# Altium footprint library TMDX654GPEVM_BRD.PcbLib: 153 footprints (part 3 of 12)
Each footprint in its own frame and in the unit in brackets; x right, y up, seen from the top. Pads: shape width x height; smd on the part's side, far side on the other; paste and mask are expansions set on the pad; w line width, h text height; cw(c..) or ccw(c..) is an arc to the next point about the centre after c.
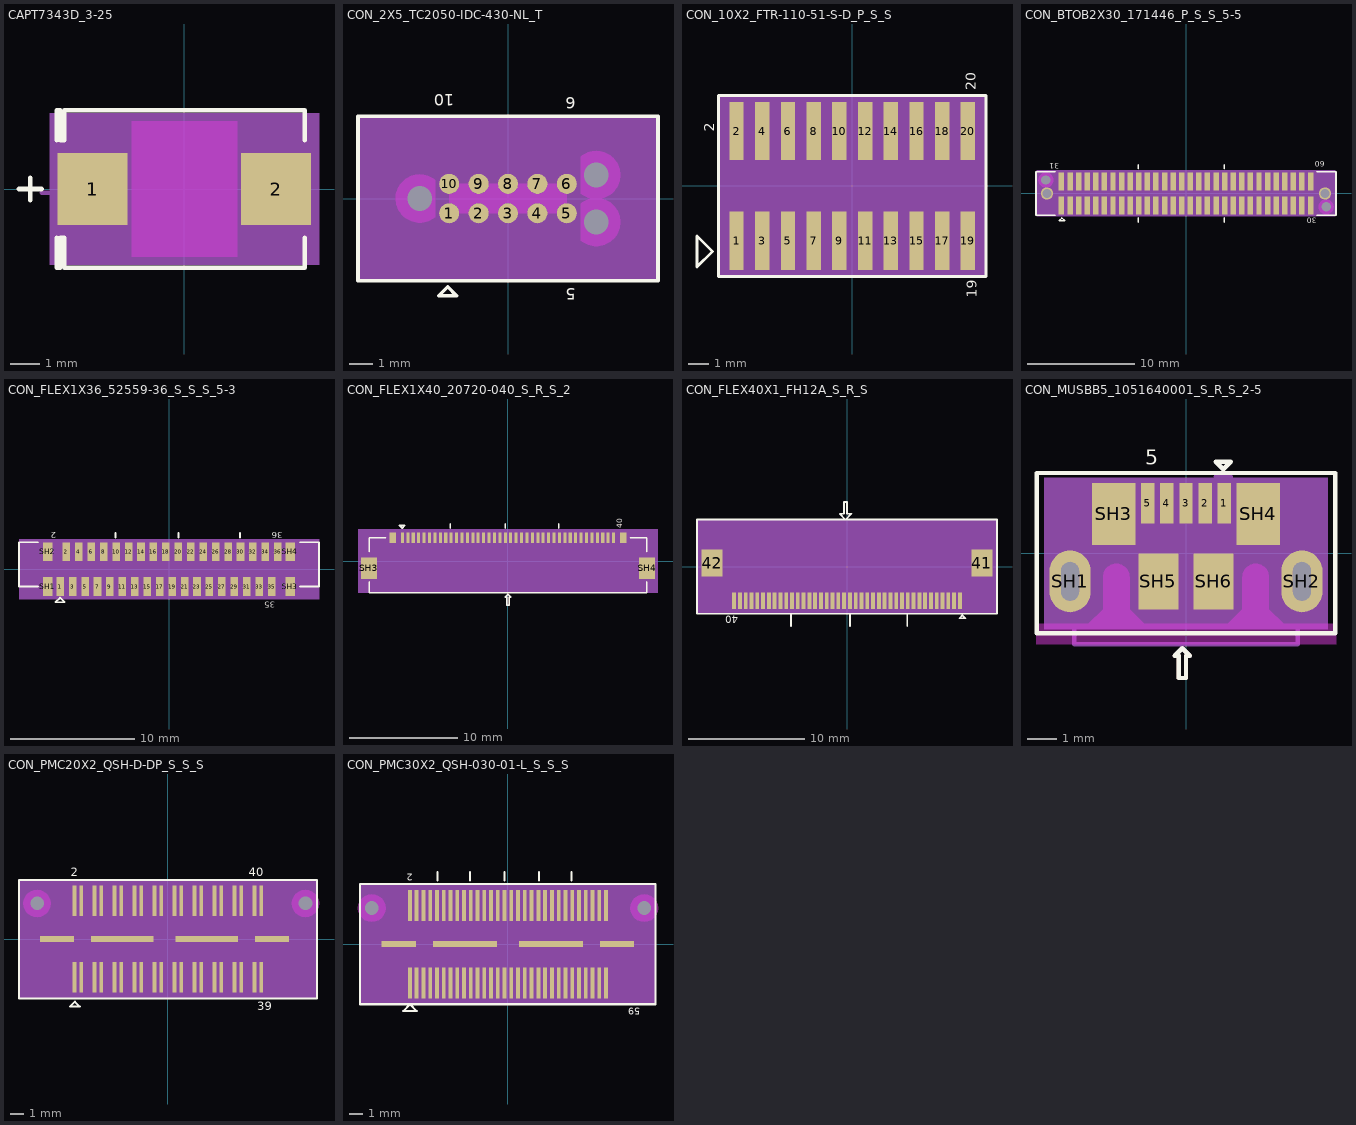
[diagram p2: the footprints below, top view; thin cyan lines are the x and y axes]

## CAPT7343D_3-25 [mil] "CAPT7343D_3-25"
pads (2):
  rect 93x96 smd: 1(-122.05,0) 2(122.05,0)
Top Layer keep-out:
  region: -70,90 -70,-90 70,-90 70,90
Top Overlay:
  lines w6: -220,0 -190,0 ; -205,-15 -205,15 ; -170,-65 -170,-105 -165,-105 -165,-65 -160,-65 -160,-105 160,-105 160,-65 ; -170,65 -170,105 -165,105 -165,65 -160,65 -160,105 160,105 160,65
Top Courtyard:
  dashed: -175.55,-97 -175.55,97 175.55,97 175.55,-97
Top 3D Body:
  region: -179,-100.5 -179,100.5 179,100.5 179,-100.5
Mechanical 15:
  lines w6: -190,-5 -160,-5 ; -175,-20 -175,10 ; -145,90 -150,90 -150,-90 150,-90 150,90 -145,90 ; -145,90 -145,-90 -140,-90 -140,90 -145,90
  text "C299" at 30.45,-41 h30
Mechanical 16:
  lines w6: -190,-5 -160,-5 ; -175,-20 -175,10 ; -145,90 -150,90 -150,-90 150,-90 150,90 -145,90 ; -145,90 -145,-90 -140,-90 -140,90 -145,90
  text "C299" at 30.45,-41 h30
Mechanical 17:
  lines w6: -190,-5 -160,-5 ; -175,-20 -175,10 ; -145,90 -150,90 -150,-90 150,-90 150,90 -145,90 ; -145,90 -145,-90 -140,-90 -140,90 -145,90
  text "C299" at 30.45,-41 h30
Mechanical 18:
  lines w6: -190,-5 -160,-5 ; -175,-20 -175,10 ; -145,90 -150,90 -150,-90 150,-90 150,90 -145,90 ; -145,90 -145,-90 -140,-90 -140,90 -145,90
  text "C299" at 30.45,-41 h30
Mechanical 19:
  lines w6: -190,-5 -160,-5 ; -175,-20 -175,10 ; -145,90 -150,90 -150,-90 150,-90 150,90 -145,90 ; -145,90 -145,-90 -140,-90 -140,90 -145,90
  text "C299" at 30.45,-41 h30
Mechanical47:
  text "1" at -122.05,4 h10
  text "2" at 122.05,4 h10
Top Assembly:
  lines w6: -190,-5 -160,-5 ; -175,-20 -175,10 ; -145,90 150,90 150,-90 -150,-90 -150,90 -145,90 ; -145,90 -145,-90 -140,-90 -140,90 -145,90
  text ".Designator" at 30.45,-41 h30
3D body: height 150, standoff 0, extent -179,-100.5 179,100.5

## CON_2X5_TC2050-IDC-430-NL_T [mil] "CON_2X5_TC2050-IDC-430-NL_T"
pads (13):
  round 34 smd: 1(-100,-25) 2(-50,-25) 3(0,-25) 4(50,-25) 5(100,-25) 6(100,25) 7(50,25) 8(0,25) 9(-50,25) 10(-100,25)
  round 37 hole 42 unplated: ""(-150,0) ""(150,-39.96) ""(150,39.96)
Top Layer keep-out:
  region: 314 vertices and 0 holes, not listed, extent -100,-25 100,25
Top Overlay:
  lines w6: -255,-140 -255,140 255,140 255,-140 -255,-140 ; -117.5,-165 -87.5,-165 -102.5,-150 -117.5,-165
  text "5" at 115,-152.5 h20
  text "6" at 115,172.5 h20
  text "10" at -91.5,177.5 h20
  text ".Designator" at 26.5,187.5 h30
Top Courtyard:
  dashed: -252,137 -252,-137 252,-137 252,137
Top 3D Body:
  region: -255,140 -255,-140 255,-140 255,140
Multi-Layer keep-out:
  drawing of 3 lines, arcs and shapes, not listed
Mechanical47:
  text "7" at 46,18.33 h10
  text "1" at -104,-25 h10
  text "3" at -4,-25 h10
  text "9" at -54,18.33 h10
  text "5" at 96,-25 h10
  text "4" at 46,-25 h10
  text "2" at -54,-25 h10
  text "8" at -4,18.33 h10
  text "6" at 96,18.33 h10
  text "10" at -108,18.33 h10
Top Assembly:
  lines w6: -245,-9.29 ccw(c-195,-9.29) -230.36,-44.64 -145,-130 245,-130 245,130 -145,130 -230.36,44.64 ccw(c-195,9.29) -245,9.29 -245,-9.29 ; -200,-9.29 ccw(c-150,-9.29) -185.36,-44.64 -150,-80 200,-80 200,80 -150,80 -185.36,44.64 ccw(c-150,9.29) -200,9.29 -200,-9.29 ; -115,-80 -85,-80 -100,-65 -115,-80
3D body: height 150, standoff 0, extent -255,-140 255,140

## CON_10X2_FTR-110-51-S-D_P_S_S [mil] "CON_10X2_FTR-110-51-S-D_P_S_S"
pads (20):
  rect 28x113 smd: 1(-225,-106.5) 2(-225,106.5) 3(-175,-106.5) 4(-175,106.5) 5(-125,-106.5) 6(-125,106.5) 7(-75,-106.5) 8(-75,106.5) 9(-25,-106.5) 10(-25,106.5) 11(25,-106.5) 12(25,106.5) 13(75,-106.5) 14(75,106.5) 15(125,-106.5) 16(125,106.5) 17(175,-106.5) 18(175,106.5) 19(225,-106.5) 20(225,106.5)
Top Overlay:
  lines w6: -301.88,-157.43 -271.88,-127.43 -301.88,-97.43 -301.88,-157.43 ; -260,-176 -260,176 260,176 260,-176 -260,-176
  text ".Designator" at 307,-49 h30
  text "2" at -268.05,105.65 h20
  text "20" at 240.14,185.99 h20
  text "19" at 241.8,-217.92 h20
Top Courtyard:
  dashed: -257,-170 -257,170 257,170 257,-170
Top 3D Body:
  region: -260,-176 260,-176 260,176 -260,176
Mechanical 10:
  lines w6: -250,-100 -250,100 250,100 250,-100 -210,-100 -225,-80 -240,-100 -250,-100
  text "J13" at 15,-39 h30
Mechanical 11:
  lines w6: -250,-100 -250,100 250,100 250,-100 -210,-100 -225,-80 -240,-100 -250,-100
  text "J13" at 15,-39 h30
Mechanical 12:
  lines w6: -250,-100 -250,100 250,100 250,-100 -210,-100 -225,-80 -240,-100 -250,-100
  text "J13" at 15,-39 h30
Mechanical 13:
  lines w6: -250,-100 -250,100 250,100 250,-100 -210,-100 -225,-80 -240,-100 -250,-100
  text "J13" at 15,-39 h30
Mechanical 14:
  lines w6: -250,-100 -250,100 250,100 250,-100 -210,-100 -225,-80 -240,-100 -250,-100
  text "J13" at 15,-39 h30
Mechanical47:
  text "17" at 175,-114.5 h10
  text "18" at 175,98.5 h10
  text "19" at 225,-114.5 h10
  text "6" at -125,102.5 h10
  text "4" at -175,102.5 h10
  text "13" at 75,-114.5 h10
  text "3" at -175,-110.5 h10
  text "8" at -75,102.5 h10
  text "7" at -75,-110.5 h10
  text "14" at 75,98.5 h10
  text "2" at -225,102.5 h10
  text "1" at -225,-110.5 h10
  text "12" at 25,98.5 h10
  text "10" at -25,98.5 h10
  text "20" at 225,98.5 h10
  text "16" at 125,98.5 h10
  text "15" at 125,-114.5 h10
  text "9" at -25,-110.5 h10
  text "11" at 25,-114.5 h10
  text "5" at -125,-110.5 h10
Top Assembly:
  lines w6: -250,-100 -250,100 250,100 250,-100 -210,-100 -225,-80 -240,-100 -250,-100
3D body: height 150, standoff 0, extent -260,-176 260,176

## CON_BTOB2X30_171446_P_S_S_5-5 [mil] "CON_BTOB2X30_171446_P_S_S_5-5"
pads (64):
  rect 20x67 smd: 1(-456.69,-43.9) 2(-425.2,-43.9) 3(-393.7,-43.9) 4(-362.2,-43.9) 5(-330.71,-43.9) 6(-299.21,-43.9) 7(-267.72,-43.9) 8(-236.22,-43.9) 9(-204.72,-43.9) 10(-173.23,-43.9) 11(-141.73,-43.9) 12(-110.24,-43.9) 13(-78.74,-43.9) 14(-47.24,-43.9) 15(-15.75,-43.9) 16(15.75,-43.9) 17(47.24,-43.9) 18(78.74,-43.9) 19(110.24,-43.9) 20(141.73,-43.9) 21(173.23,-43.9) 22(204.72,-43.9) 23(236.22,-43.9) 24(267.72,-43.9) 25(299.21,-43.9) 26(330.71,-43.9) 27(362.2,-43.9) 28(393.7,-43.9) 29(425.2,-43.9) 30(456.69,-43.9) 31(-456.69,43.9) 32(-425.2,43.9) 33(-393.7,43.9) 34(-362.2,43.9) 35(-330.71,43.9) 36(-299.21,43.9) 37(-267.72,43.9) 38(-236.22,43.9) 39(-204.72,43.9) 40(-173.23,43.9) 41(-141.73,43.9) 42(-110.24,43.9) 43(-78.74,43.9) 44(-47.24,43.9) 45(-15.75,43.9) 46(15.75,43.9) 47(47.24,43.9) 48(78.74,43.9) 49(110.24,43.9) 50(141.73,43.9) 51(173.23,43.9) 52(204.72,43.9) 53(236.22,43.9) 54(267.72,43.9) 55(299.21,43.9) 56(330.71,43.9) 57(362.2,43.9) 58(393.7,43.9) 59(425.2,43.9) 60(456.69,43.9)
  round 45 hole 32: SH1(-509.84,0) SH2(509.84,0)
  round 29 hole 34 unplated: ""(-513.78,49.21) ""(513.78,-49.21)
Top Overlay:
  lines w6: -480,-80 -550,-80 -550,80 -480,80 ; -175,-105 -175,-90 ; -175,90 -175,105 ; 140,-105 140,-90 ; 140,90 140,105 ; 480,-80 550,-80 550,80 480,80 ; -465,-100 -445,-100 -455,-90 -465,-100
  text "31" at -465.5,111.01 h20
  text "30" at 479.5,-88.99 h20
  text "60" at 509.5,117.68 h20
  text ".Designator" at -44.5,-158.99 h30
Top Courtyard:
  dashed: -547,-84.4 -547,84.4 547,84.4 547,-84.4
Top 3D Body:
  region: -540,-70 540,-70 540,70 -540,70
Mechanical 10:
  lines w6: -540,-35 -535,-35 -535,-50 ccw(c-515,-50) -515,-70 -475,-70 -475,-55 475,-55 475,-70 515,-70 ccw(c515,-50) 535,-50 535,-35 540,-35 540,-25 515,-25 515,25 540,25 540,35 535,35 535,50 ccw(c515,50) 515,70 475,70 475,55 -475,55 -475,70 -515,70 ccw(c-515,50) -535,50 -535,35 -540,35 -540,25 -515,25 -515,-25 -540,-25 -540,-35 ; -465,-70 -445,-70 -455,-60 -465,-70
  text "J5" at 50.5,16.01 h30
Mechanical 11:
  lines w6: -540,-35 -535,-35 -535,-50 ccw(c-515,-50) -515,-70 -475,-70 -475,-55 475,-55 475,-70 515,-70 ccw(c515,-50) 535,-50 535,-35 540,-35 540,-25 515,-25 515,25 540,25 540,35 535,35 535,50 ccw(c515,50) 515,70 475,70 475,55 -475,55 -475,70 -515,70 ccw(c-515,50) -535,50 -535,35 -540,35 -540,25 -515,25 -515,-25 -540,-25 -540,-35 ; -465,-70 -445,-70 -455,-60 -465,-70
  text "J5" at 50.5,16.01 h30
Mechanical 12:
  lines w6: -540,-35 -535,-35 -535,-50 ccw(c-515,-50) -515,-70 -475,-70 -475,-55 475,-55 475,-70 515,-70 ccw(c515,-50) 535,-50 535,-35 540,-35 540,-25 515,-25 515,25 540,25 540,35 535,35 535,50 ccw(c515,50) 515,70 475,70 475,55 -475,55 -475,70 -515,70 ccw(c-515,50) -535,50 -535,35 -540,35 -540,25 -515,25 -515,-25 -540,-25 -540,-35 ; -465,-70 -445,-70 -455,-60 -465,-70
  text "J5" at 50.5,16.01 h30
Mechanical 13:
  lines w6: -540,-35 -535,-35 -535,-50 ccw(c-515,-50) -515,-70 -475,-70 -475,-55 475,-55 475,-70 515,-70 ccw(c515,-50) 535,-50 535,-35 540,-35 540,-25 515,-25 515,25 540,25 540,35 535,35 535,50 ccw(c515,50) 515,70 475,70 475,55 -475,55 -475,70 -515,70 ccw(c-515,50) -535,50 -535,35 -540,35 -540,25 -515,25 -515,-25 -540,-25 -540,-35 ; -465,-70 -445,-70 -455,-60 -465,-70
  text "J5" at 50.5,16.01 h30
Mechanical 14:
  lines w6: -540,-35 -535,-35 -535,-50 ccw(c-515,-50) -515,-70 -475,-70 -475,-55 475,-55 475,-70 515,-70 ccw(c515,-50) 535,-50 535,-35 540,-35 540,-25 515,-25 515,25 540,25 540,35 535,35 535,50 ccw(c515,50) 515,70 475,70 475,55 -475,55 -475,70 -515,70 ccw(c-515,50) -535,50 -535,35 -540,35 -540,25 -515,25 -515,-25 -540,-25 -540,-35 ; -465,-70 -445,-70 -455,-60 -465,-70
  text "J5" at 50.5,16.01 h30
Multi-Layer keep-out:
  region: -541.49,49.21 -540.54,42.04 -537.78,35.36 -533.37,29.62 -527.63,25.21 -520.95,22.45 -513.78,21.5 -506.61,22.45 -499.92,25.21 -494.18,29.62 -489.78,35.36 -487.01,42.04 -486.07,49.21 -487.01,56.38 -489.78,63.07 -494.18,68.81 -499.92,73.21 -506.61,75.98 -513.78,76.92 -520.95,75.98 -527.63,73.21 -533.37,68.81 -537.78,63.07 -540.54,56.38
  region: 486.32,-49.21 487.26,-56.32 490,-62.94 494.36,-68.63 500.05,-72.99 506.67,-75.74 513.78,-76.67 520.89,-75.74 527.51,-72.99 533.19,-68.63 537.56,-62.94 540.3,-56.32 541.24,-49.21 540.3,-42.11 537.56,-35.48 533.19,-29.8 527.51,-25.43 520.89,-22.69 513.78,-21.75 506.67,-22.69 500.05,-25.43 494.36,-29.8 490,-35.48 487.26,-42.11
Mechanical47:
  text "31" at -448.69,43.9 h10
  text "2" at -421.2,-43.9 h10
  text "56" at 338.71,43.9 h10
  text "15" at -7.75,-43.9 h10
  text "33" at -385.7,43.9 h10
  text "55" at 307.21,43.9 h10
  text "34" at -354.2,43.9 h10
  text "49" at 118.24,43.9 h10
  text "50" at 149.73,43.9 h10
  text "39" at -196.72,43.9 h10
  text "40" at -165.23,43.9 h10
  text "42" at -102.24,43.9 h10
  text "43" at -70.74,43.9 h10
  text "7" at -263.72,-43.9 h10
  text "8" at -232.22,-43.9 h10
  text "9" at -200.72,-43.9 h10
  text "1" at -452.69,-43.9 h10
  text "4" at -358.2,-43.9 h10
  text "10" at -165.23,-43.9 h10
  text "13" at -70.74,-43.9 h10
  text "17" at 55.24,-43.9 h10
  text "20" at 149.73,-43.9 h10
  text "23" at 244.22,-43.9 h10
  text "26" at 338.71,-43.9 h10
  text "29" at 433.2,-43.9 h10
  text "32" at -417.2,43.9 h10
  text "35" at -322.71,43.9 h10
  text "38" at -228.22,43.9 h10
  text "41" at -133.73,43.9 h10
  text "44" at -39.24,43.9 h10
  text "48" at 86.74,43.9 h10
  text "51" at 181.23,43.9 h10
  text "54" at 275.72,43.9 h10
  text "57" at 370.2,43.9 h10
  text "60" at 464.69,43.9 h10
  text "SH1" at -497.84,0 h10
  text "SH2" at 521.84,0 h10
  text "11" at -133.73,-43.9 h10
  text "45" at -7.75,43.9 h10
  text "24" at 275.72,-43.9 h10
  text "30" at 464.69,-43.9 h10
  text "3" at -389.7,-43.9 h10
  text "37" at -259.72,43.9 h10
  text "46" at 23.75,43.9 h10
  text "5" at -326.71,-43.9 h10
  text "36" at -291.21,43.9 h10
  text "16" at 23.75,-43.9 h10
  text "59" at 433.2,43.9 h10
  text "28" at 401.7,-43.9 h10
  text "58" at 401.7,43.9 h10
  text "27" at 370.2,-43.9 h10
  text "6" at -295.21,-43.9 h10
  text "14" at -39.24,-43.9 h10
  text "25" at 307.21,-43.9 h10
  text "18" at 86.74,-43.9 h10
  text "19" at 118.24,-43.9 h10
  text "47" at 55.24,43.9 h10
  text "21" at 181.23,-43.9 h10
  text "22" at 212.72,-43.9 h10
  text "52" at 212.72,43.9 h10
  text "53" at 244.22,43.9 h10
  text "12" at -102.24,-43.9 h10
Top Assembly:
  lines w6: -540,-35 -535,-35 -535,-50 ccw(c-515,-50) -515,-70 -475,-70 -475,-55 475,-55 475,-70 515,-70 ccw(c515,-50) 535,-50 535,-35 540,-35 540,-25 515,-25 515,25 540,25 540,35 535,35 535,50 ccw(c515,50) 515,70 475,70 475,55 -475,55 -475,70 -515,70 ccw(c-515,50) -535,50 -535,35 -540,35 -540,25 -515,25 -515,-25 -540,-25 -540,-35 ; -465,-70 -445,-70 -455,-60 -465,-70
3D body: height 150, standoff 0, extent -540,-70 540,70

## CON_FLEX1X36_52559-36_S_S_S_5-3 [mil] "CON_FLEX1X36_52559-36_S_S_S_5-3"
pads (40):
  rect 24x59 smd: 1(-344.49,-55.12) 2(-324.8,55.12) 3(-305.12,-55.12) 4(-285.43,55.12) 5(-265.75,-55.12) 6(-246.06,55.12) 7(-226.38,-55.12) 8(-206.69,55.12) 9(-187.01,-55.12) 10(-167.32,55.12) 11(-147.64,-55.12) 12(-127.95,55.12) 13(-108.27,-55.12) 14(-88.58,55.12) 15(-68.9,-55.12) 16(-49.21,55.12) 17(-29.53,-55.12) 18(-9.84,55.12) 19(9.84,-55.12) 20(29.53,55.12) 21(49.21,-55.12) 22(68.9,55.12) 23(88.58,-55.12) 24(108.27,55.12) 25(127.95,-55.12) 26(147.64,55.12) 27(167.32,-55.12) 28(187.01,55.12) 29(206.69,-55.12) 30(226.38,55.12) 31(246.06,-55.12) 32(265.75,55.12) 33(285.43,-55.12) 34(305.12,55.12) 35(324.8,-55.12) 36(344.49,55.12)
  rect 31x59 smd: SH1(-383.86,-55.12) SH2(-383.86,55.12) SH3(383.86,-55.12) SH4(383.86,55.12)
Top Overlay:
  lines w6: -415,-55 -475,-55 -475,85 -415,85 ; -170,100 -170,115 ; 30,100 30,115 ; 225,100 225,115 ; 415,-55 475,-55 475,85 415,85 ; -360.02,-105.06 -330.02,-105.06 -345.02,-90.06 -360.02,-105.06
  text "2" at -357.52,117.44 h20
  text "35" at 335.98,-102.56 h20
  text "36" at 360.98,117.44 h20
  text ".Designator" at 53.98,-112.56 h30
Top Courtyard:
  dashed: -472,-91.62 -472,91.62 472,91.62 472,-91.62
Top 3D Body:
  region: -475,95 -475,-95 475,-95 475,95
Mechanical 15:
  lines w6: -465,45 -465,-45 370,-45 ; -465,45 465,45 ; -465,45 465,45 ; -465,45 -265,75 265,75 465,45 ; 370,-45 465,-45 465,45 ; 370,-45 370,-5 -370,-5 -370,-45 370,-45 ; -360,-65 -330,-65 -345,-50 -360,-65
  text "J39" at 18.98,-57.56 h30
Mechanical 16:
  lines w6: -465,45 -465,-45 370,-45 ; -465,45 465,45 ; -465,45 465,45 ; -465,45 -265,75 265,75 465,45 ; 370,-45 465,-45 465,45 ; 370,-45 370,-5 -370,-5 -370,-45 370,-45 ; -360,-65 -330,-65 -345,-50 -360,-65
  text "J39" at 18.98,-57.56 h30
Mechanical 17:
  lines w6: -465,45 -465,-45 370,-45 ; -465,45 465,45 ; -465,45 465,45 ; -465,45 -265,75 265,75 465,45 ; 370,-45 465,-45 465,45 ; 370,-45 370,-5 -370,-5 -370,-45 370,-45 ; -360,-65 -330,-65 -345,-50 -360,-65
  text "J39" at 18.98,-57.56 h30
Mechanical 18:
  lines w6: -465,45 -465,-45 370,-45 ; -465,45 465,45 ; -465,45 465,45 ; -465,45 -265,75 265,75 465,45 ; 370,-45 465,-45 465,45 ; 370,-45 370,-5 -370,-5 -370,-45 370,-45 ; -360,-65 -330,-65 -345,-50 -360,-65
  text "J39" at 18.98,-57.56 h30
Mechanical 19:
  lines w6: -465,45 -465,-45 370,-45 ; -465,45 465,45 ; -465,45 465,45 ; -465,45 -265,75 265,75 465,45 ; 370,-45 465,-45 465,45 ; 370,-45 370,-5 -370,-5 -370,-45 370,-45 ; -360,-65 -330,-65 -345,-50 -360,-65
  text "J39" at 18.98,-57.56 h30
Mechanical47:
  text "27" at 159.32,-55.12 h10
  text "28" at 179.01,55.12 h10
  text "35" at 316.8,-55.12 h10
  text "36" at 336.49,55.12 h10
  text "24" at 100.27,55.12 h10
  text "14" at -96.58,55.12 h10
  text "18" at -17.84,55.12 h10
  text "17" at -37.53,-55.12 h10
  text "21" at 41.21,-55.12 h10
  text "11" at -155.64,-55.12 h10
  text "15" at -76.9,-55.12 h10
  text "20" at 21.53,55.12 h10
  text "8" at -210.69,55.12 h10
  text "23" at 80.58,-55.12 h10
  text "9" at -191.01,-55.12 h10
  text "4" at -289.43,55.12 h10
  text "5" at -269.75,-55.12 h10
  text "12" at -135.95,55.12 h10
  text "13" at -116.27,-55.12 h10
  text "SH4" at 371.86,55.12 h10
  text "SH3" at 371.86,-55.12 h10
  text "34" at 297.12,55.12 h10
  text "33" at 277.43,-55.12 h10
  text "29" at 198.69,-55.12 h10
  text "22" at 60.9,55.12 h10
  text "16" at -57.21,55.12 h10
  text "10" at -175.32,55.12 h10
  text "6" at -250.06,55.12 h10
  text "7" at -230.38,-55.12 h10
  text "SH1" at -395.86,-55.12 h10
  text "SH2" at -395.86,55.12 h10
  text "19" at 1.84,-55.12 h10
  text "30" at 218.38,55.12 h10
  text "31" at 238.06,-55.12 h10
  text "32" at 257.75,55.12 h10
  text "25" at 119.95,-55.12 h10
  text "26" at 139.64,55.12 h10
  text "2" at -328.8,55.12 h10
  text "1" at -348.49,-55.12 h10
  text "3" at -309.12,-55.12 h10
Top Assembly:
  lines w6: -465,45 465,45 ; -465,45 -265,75 265,75 465,45 ; -465,45 -465,-45 370,-45 ; -465,45 465,45 ; 370,-45 465,-45 465,45 ; 370,-45 370,-5 -370,-5 -370,-45 370,-45 ; -360,-65 -330,-65 -345,-50 -360,-65
3D body: height 150, standoff 0, extent -475,-95 475,95

## CON_FLEX1X40_20720-040_S_R_S_2 [mil] "CON_FLEX1X40_20720-040_S_R_S_2"
pads (44):
  rect 11x39 smd: 1(-383.86,85.1) 2(-364.17,85.1) 3(-344.49,85.1) 4(-324.8,85.1) 5(-305.12,85.1) 6(-285.43,85.1) 7(-265.75,85.1) 8(-246.06,85.1) 9(-226.38,85.1) 10(-206.69,85.1) 11(-187.01,85.1) 12(-167.32,85.1) 13(-147.64,85.1) 14(-127.95,85.1) 15(-108.27,85.1) 16(-88.58,85.1) 17(-68.9,85.1) 18(-49.21,85.1) 19(-29.53,85.1) 20(-9.84,85.1) 21(9.84,85.1) 22(29.53,85.1) 23(49.21,85.1) 24(68.9,85.1) 25(88.58,85.1) 26(108.27,85.1) 27(127.95,85.1) 28(147.64,85.1) 29(167.32,85.1) 30(187.01,85.1) 31(206.69,85.1) 32(226.38,85.1) 33(246.06,85.1) 34(265.75,85.1) 35(285.43,85.1) 36(305.12,85.1) 37(324.8,85.1) 38(344.49,85.1) 39(364.17,85.1) 40(383.86,85.1)
  rect 24x39 smd: SH1(-419.29,85.1) SH2(419.29,85.1)
  rect 59x79 smd: SH3(-505.9,-25.93) SH4(505.9,-25.93)
Top Overlay:
  lines w6: -505,-75.53 -505,-115.53 505,-115.53 505,-75.53 ; -505,34.47 -505,84.47 -445,84.47 ; -210,120.53 -210,135.53 ; -10,120.53 -10,135.53 ; 185,120.53 185,135.53 ; 445,84.47 505,84.47 505,34.47 ; -395,129.47 -375,129.47 -385,119.47 -395,129.47 ; -10,-130.53 -5,-130.53 -5,-160.53 5,-160.53 5,-130.53 10,-130.53 0,-120.53 -10,-130.53
  text "40" at 415,119.55 h20
  text ".Designator" at -76,175.55 h30
Top Courtyard:
  dashed: -542.4,-112.53 -542.4,111.6 542.4,111.6 542.4,-112.53
Top 3D Body:
  region: -545,115.53 -545,-115.53 545,-115.53 545,115.53
Mechanical 15:
  lines w6: -495,4.47 -495,-105.53 495,-105.53 495,4.47 ; -495,4.47 -495,-50.53 -520,-50.53 -520,4.47 -495,4.47 ; -495,4.47 -495,74.47 495,74.47 495,4.47 ; 495,4.47 520,4.47 520,-50.53 495,-50.53 495,4.47 ; -395,89.47 -375,89.47 -385,79.47 -395,89.47 ; -10,-130.53 -5,-130.53 -5,-160.53 5,-160.53 5,-130.53 10,-130.53 0,-120.53 -10,-130.53
  text "J38" at 35,-58.45 h30
Mechanical 16:
  lines w6: -495,4.47 -495,-105.53 495,-105.53 495,4.47 ; -495,4.47 -495,-50.53 -520,-50.53 -520,4.47 -495,4.47 ; -495,4.47 -495,74.47 495,74.47 495,4.47 ; 495,4.47 520,4.47 520,-50.53 495,-50.53 495,4.47 ; -395,89.47 -375,89.47 -385,79.47 -395,89.47 ; -10,-130.53 -5,-130.53 -5,-160.53 5,-160.53 5,-130.53 10,-130.53 0,-120.53 -10,-130.53
  text "J38" at 35,-58.45 h30
Mechanical 17:
  lines w6: -495,4.47 -495,-105.53 495,-105.53 495,4.47 ; -495,4.47 -495,-50.53 -520,-50.53 -520,4.47 -495,4.47 ; -495,4.47 -495,74.47 495,74.47 495,4.47 ; 495,4.47 520,4.47 520,-50.53 495,-50.53 495,4.47 ; -395,89.47 -375,89.47 -385,79.47 -395,89.47 ; -10,-130.53 -5,-130.53 -5,-160.53 5,-160.53 5,-130.53 10,-130.53 0,-120.53 -10,-130.53
  text "J38" at 35,-58.45 h30
Mechanical 18:
  lines w6: -495,4.47 -495,-105.53 495,-105.53 495,4.47 ; -495,4.47 -495,-50.53 -520,-50.53 -520,4.47 -495,4.47 ; -495,4.47 -495,74.47 495,74.47 495,4.47 ; 495,4.47 520,4.47 520,-50.53 495,-50.53 495,4.47 ; -395,89.47 -375,89.47 -385,79.47 -395,89.47 ; -10,-130.53 -5,-130.53 -5,-160.53 5,-160.53 5,-130.53 10,-130.53 0,-120.53 -10,-130.53
  text "J38" at 35,-58.45 h30
Mechanical 19:
  lines w6: -495,4.47 -495,-105.53 495,-105.53 495,4.47 ; -495,4.47 -495,-50.53 -520,-50.53 -520,4.47 -495,4.47 ; -495,4.47 -495,74.47 495,74.47 495,4.47 ; 495,4.47 520,4.47 520,-50.53 495,-50.53 495,4.47 ; -395,89.47 -375,89.47 -385,79.47 -395,89.47 ; -10,-130.53 -5,-130.53 -5,-160.53 5,-160.53 5,-130.53 10,-130.53 0,-120.53 -10,-130.53
  text "J38" at 35,-58.45 h30
Mechanical47:
  text "18" at -44.21,93.1 h10
  text "26" at 113.27,93.1 h10
  text "20" at -4.84,93.1 h10
  text "17" at -63.9,93.1 h10
  text "11" at -182.01,93.1 h10
  text "14" at -122.95,93.1 h10
  text "15" at -103.27,93.1 h10
  text "30" at 192.01,93.1 h10
  text "21" at 14.84,93.1 h10
  text "23" at 54.21,93.1 h10
  text "24" at 73.9,93.1 h10
  text "8" at -241.06,89.1 h10
  text "12" at -162.32,93.1 h10
  text "40" at 388.86,93.1 h10
  text "31" at 211.69,93.1 h10
  text "6" at -280.43,89.1 h10
  text "10" at -201.69,93.1 h10
  text "22" at 34.53,93.1 h10
  text "19" at -24.53,93.1 h10
  text "16" at -83.58,93.1 h10
  text "13" at -142.64,93.1 h10
  text "7" at -260.75,89.1 h10
  text "25" at 93.58,93.1 h10
  text "28" at 152.64,93.1 h10
  text "34" at 270.75,93.1 h10
  text "37" at 329.8,93.1 h10
  text "32" at 231.38,93.1 h10
  text "27" at 132.95,93.1 h10
  text "38" at 349.49,93.1 h10
  text "29" at 172.32,93.1 h10
  text "35" at 290.43,93.1 h10
  text "36" at 310.12,93.1 h10
  text "3" at -339.49,89.1 h10
  text "1" at -378.86,89.1 h10
  text "2" at -359.17,89.1 h10
  text "SH1" at -419.29,97.1 h10
  text "SH3" at -505.9,-13.93 h10
  text "SH2" at 419.29,97.1 h10
  text "SH4" at 505.9,-13.93 h10
  text "5" at -300.12,89.1 h10
  text "4" at -319.8,89.1 h10
  text "9" at -221.38,89.1 h10
  text "39" at 369.17,93.1 h10
  text "33" at 251.06,93.1 h10
Top Assembly:
  lines w6: -495,4.47 -495,-105.53 495,-105.53 495,4.47 ; -495,4.47 -495,-50.53 -520,-50.53 -520,4.47 -495,4.47 ; -495,4.47 -495,74.47 495,74.47 495,4.47 ; 495,4.47 520,4.47 520,-50.53 495,-50.53 495,4.47 ; -395,89.47 -375,89.47 -385,79.47 -395,89.47 ; -10,-130.53 -5,-130.53 -5,-160.53 5,-160.53 5,-130.53 10,-130.53 0,-120.53 -10,-130.53
3D body: height 150, standoff 0, extent -545,-115.53 545,115.53

## CON_FLEX40X1_FH12A_S_R_S [mil] "CON_FLEX40X1_FH12A_S_R_S"
pads (42):
  rect 13x55 smd: 1(383.86,-115.75) 2(364.17,-115.75) 3(344.49,-115.75) 4(324.8,-115.75) 5(305.12,-115.75) 6(285.43,-115.75) 7(265.75,-115.75) 8(246.06,-115.75) 9(226.38,-115.75) 10(206.69,-115.75) 11(187.01,-115.75) 12(167.32,-115.75) 13(147.64,-115.75) 14(127.95,-115.75) 15(108.27,-115.75) 16(88.58,-115.75) 17(68.9,-115.75) 18(49.21,-115.75) 19(29.53,-115.75) 20(9.84,-115.75) 21(-9.84,-115.75) 22(-29.53,-115.75) 23(-49.21,-115.75) 24(-68.9,-115.75) 25(-88.58,-115.75) 26(-108.27,-115.75) 27(-127.95,-115.75) 28(-147.64,-115.75) 29(-167.32,-115.75) 30(-187.01,-115.75) 31(-206.69,-115.75) 32(-226.38,-115.75) 33(-246.06,-115.75) 34(-265.75,-115.75) 35(-285.43,-115.75) 36(-305.12,-115.75) 37(-324.8,-115.75) 38(-344.49,-115.75) 39(-364.17,-115.75) 40(-383.86,-115.75)
  rect 71x91 smd: 41(458.66,12.2) 42(-458.66,12.2)
Top Overlay:
  lines w6: -190,-201.77 -190,-161.77 ; 10,-201.77 10,-161.77 ; 205,-201.77 205,-161.77 ; -510,-160 -510,160 510,160 510,-160 -510,-160 ; -25,180 -5,160 15,180 0,180 0,220 -10,220 -10,180 -25,180 ; 382.48,-175 402.48,-175 392.48,-165 382.48,-175
  text "40" at -370,-166.77 h25
  text ".Designator" at 96.48,-225 h30
Top Courtyard:
  dashed: 501.16,-149.25 501.16,157 -501.16,157 -501.16,-149.25
Top 3D Body:
  region: -510,-160 510,-160 510,160 -510,160
Mechanical 15:
  lines w6: -485,75 -460,75 -460,35 -450,35 -450,25 -475,25 -475,-10 -460,-10 -460,-100 460,-100 460,-10 475,-10 475,25 450,25 450,35 460,35 460,75 485,75 485,150 420,150 420,85 -420,85 -420,150 -485,150 -485,75 ; 367.48,-132.5 417.48,-132.5 392.48,-107.5 367.48,-132.5
  text "J41" at -36,35 h30
Mechanical 16:
  lines w6: -485,75 -460,75 -460,35 -450,35 -450,25 -475,25 -475,-10 -460,-10 -460,-100 460,-100 460,-10 475,-10 475,25 450,25 450,35 460,35 460,75 485,75 485,150 420,150 420,85 -420,85 -420,150 -485,150 -485,75 ; 367.48,-132.5 417.48,-132.5 392.48,-107.5 367.48,-132.5
  text "J41" at -36,35 h30
Mechanical 17:
  lines w6: -485,75 -460,75 -460,35 -450,35 -450,25 -475,25 -475,-10 -460,-10 -460,-100 460,-100 460,-10 475,-10 475,25 450,25 450,35 460,35 460,75 485,75 485,150 420,150 420,85 -420,85 -420,150 -485,150 -485,75 ; 367.48,-132.5 417.48,-132.5 392.48,-107.5 367.48,-132.5
  text "J41" at -36,35 h30
Mechanical 18:
  lines w6: -485,75 -460,75 -460,35 -450,35 -450,25 -475,25 -475,-10 -460,-10 -460,-100 460,-100 460,-10 475,-10 475,25 450,25 450,35 460,35 460,75 485,75 485,150 420,150 420,85 -420,85 -420,150 -485,150 -485,75 ; 367.48,-132.5 417.48,-132.5 392.48,-107.5 367.48,-132.5
  text "J41" at -36,35 h30
Mechanical 19:
  lines w6: -485,75 -460,75 -460,35 -450,35 -450,25 -475,25 -475,-10 -460,-10 -460,-100 460,-100 460,-10 475,-10 475,25 450,25 450,35 460,35 460,75 485,75 485,150 420,150 420,85 -420,85 -420,150 -485,150 -485,75 ; 367.48,-132.5 417.48,-132.5 392.48,-107.5 367.48,-132.5
  text "J41" at -36,35 h30
Mechanical47:
  text "10" at 198.69,-115.75 h10
  text "11" at 179.01,-115.75 h10
  text "12" at 159.32,-115.75 h10
  text "13" at 139.64,-115.75 h10
  text "14" at 119.95,-115.75 h10
  text "15" at 100.27,-115.75 h10
  text "17" at 60.9,-115.75 h10
  text "18" at 41.21,-115.75 h10
  text "19" at 21.53,-115.75 h10
  text "20" at 1.84,-115.75 h10
  text "21" at -17.84,-115.75 h10
  text "22" at -37.53,-115.75 h10
  text "23" at -57.21,-115.75 h10
  text "24" at -76.9,-115.75 h10
  text "29" at -175.32,-115.75 h10
  text "35" at -293.43,-115.75 h10
  text "4" at 320.8,-115.75 h10
  text "5" at 301.12,-115.75 h10
  text "6" at 281.43,-115.75 h10
  text "8" at 242.06,-115.75 h10
  text "9" at 222.38,-115.75 h10
  text "39" at -372.17,-115.75 h10
  text "36" at -313.12,-115.75 h10
  text "16" at 80.58,-115.75 h10
  text "7" at 261.75,-115.75 h10
  text "34" at -273.75,-115.75 h10
  text "25" at -96.58,-115.75 h10
  text "41" at 449.72,12.37 h10
  text "42" at -466.86,12.37 h10
  text "40" at -391.86,-115.75 h10
  text "38" at -352.49,-115.75 h10
  text "27" at -135.95,-115.75 h10
  text "31" at -214.69,-115.75 h10
  text "30" at -195.01,-115.75 h10
  text "32" at -234.38,-115.75 h10
  text "37" at -332.8,-115.75 h10
  text "26" at -116.27,-115.75 h10
  text "33" at -254.06,-115.75 h10
  text "28" at -155.64,-115.75 h10
  text "1" at 379.86,-115.75 h10
  text "2" at 360.17,-115.75 h10
  text "3" at 340.49,-115.75 h10
Top Assembly:
  lines w6: -485,75 -460,75 -460,35 -450,35 -450,25 -475,25 -475,-10 -460,-10 -460,-100 460,-100 460,-10 475,-10 475,25 450,25 450,35 460,35 460,75 485,75 485,150 420,150 420,85 -420,85 -420,150 -485,150 -485,75 ; 367.48,-132.5 417.48,-132.5 392.48,-107.5 367.48,-132.5
3D body: height 150, standoff 0, extent -510,-160 510,160

## CON_MUSBB5_1051640001_S_R_S_2-5 [mil] "CON_MUSBB5_1051640001_S_R_S_2-5"
pads (11):
  rect 18x54 smd: 1(51.18,66.87) 2(25.59,66.87) 3(0,66.87) 4(-25.59,66.87) 5(-51.18,66.87)
  oval 55x83 hole 52 slot 24 at 0 deg: SH1(-155.51,-37.85) SH2(155.51,-37.85)
  rect 58x83 smd: SH3(-96.95,52.7) SH4(96.95,52.7)
  rect 54x75 smd: SH5(-36.91,-37.85) SH6(36.91,-37.85)
Top Overlay:
  lines w6: -200,-107.5 200,-107.5 200,107.5 -200,107.5 -200,-107.5 ; -15,-137.5 -10,-137.5 -10,-167.5 0,-167.5 0,-137.5 5,-137.5 -5,-127.5 -15,-137.5 ; 40,122.5 50,112.5 60,122.5 40,122.5
  text "5" at -55,118.33 h20
  text ".Designator" at 208.5,0 h30
Top Courtyard:
  dashed: -190.01,-101.94 -190.01,101.2 190.01,101.2 190.01,-101.94
Top 3D Body:
  lines w1: -200,-107.5 -200,107.5 200,107.5 200,-107.5 -200,-107.5
Mechanical 10:
  lines w6: -150,-122.5 -150,87.5 150,87.5 150,-122.5 -150,-122.5 ; -15,-137.5 -10,-137.5 -10,-167.5 0,-167.5 0,-137.5 5,-137.5 -5,-127.5 -15,-137.5 ; 40,102.5 60,102.5 50,92.5 40,102.5
  text "J23" at -36.5,-15 h30
Mechanical 11:
  lines w6: -150,-122.5 -150,87.5 150,87.5 150,-122.5 -150,-122.5 ; -15,-137.5 -10,-137.5 -10,-167.5 0,-167.5 0,-137.5 5,-137.5 -5,-127.5 -15,-137.5 ; 40,102.5 60,102.5 50,92.5 40,102.5
  text "J23" at -36.5,-15 h30
Mechanical 12:
  lines w6: -150,-122.5 -150,87.5 150,87.5 150,-122.5 -150,-122.5 ; -15,-137.5 -10,-137.5 -10,-167.5 0,-167.5 0,-137.5 5,-137.5 -5,-127.5 -15,-137.5 ; 40,102.5 60,102.5 50,92.5 40,102.5
  text "J23" at -36.5,-15 h30
Mechanical 13:
  lines w6: -150,-122.5 -150,87.5 150,87.5 150,-122.5 -150,-122.5 ; -15,-137.5 -10,-137.5 -10,-167.5 0,-167.5 0,-137.5 5,-137.5 -5,-127.5 -15,-137.5 ; 40,102.5 60,102.5 50,92.5 40,102.5
  text "J23" at -36.5,-15 h30
Mechanical 14:
  lines w6: -150,-122.5 -150,87.5 150,87.5 150,-122.5 -150,-122.5 ; -15,-137.5 -10,-137.5 -10,-167.5 0,-167.5 0,-137.5 5,-137.5 -5,-127.5 -15,-137.5 ; 40,102.5 60,102.5 50,92.5 40,102.5
  text "J23" at -36.5,-15 h30
Multi-Layer keep-out:
  region: -201.22,-94.94 -130.91,-94.94 -111.22,-75.26 -111.22,-31.95 -111.15,-30.4 -110.95,-28.87 -110.62,-27.36 -110.15,-25.89 -109.56,-24.46 -108.85,-23.09 -108.02,-21.79 -107.08,-20.56 -106.03,-19.42 -104.89,-18.38 -103.67,-17.44 -102.36,-16.61 -100.99,-15.89 -99.56,-15.3 -98.09,-14.84 -96.58,-14.5 -95.05,-14.3 -93.5,-14.23 -91.96,-14.3 -90.43,-14.5 -88.92,-14.84 -87.44,-15.3 -86.02,-15.89 -84.65,-16.61 -83.34,-17.44 -82.12,-18.38 -80.98,-19.42 -79.93,-20.56 -78.99,-21.79 -78.16,-23.09 -77.45,-24.46 -76.86,-25.89 -76.39,-27.36 -76.06,-28.87 -75.85,-30.4 -75.79,-31.95 -75.79,-75.26 -56.1,-94.94 56.1,-94.94 75.79,-75.26 75.79,-31.95 75.85,-30.4 76.06,-28.87 76.39,-27.36 76.86,-25.89 77.45,-24.46 78.16,-23.09 78.99,-21.79 79.93,-20.56 80.98,-19.42 82.12,-18.38 83.34,-17.44 84.65,-16.61 86.02,-15.89 87.44,-15.3 88.92,-14.84 90.43,-14.5 91.96,-14.3 93.5,-14.23 95.05,-14.3 96.58,-14.5 98.09,-14.84 99.56,-15.3 100.99,-15.89 102.36,-16.61 103.67,-17.44 104.89,-18.38 106.03,-19.42 107.08,-20.56 108.02,-21.79 108.85,-23.09 109.56,-24.46 110.15,-25.89 110.62,-27.36 110.95,-28.87 111.15,-30.4 111.22,-31.95 111.22,-75.26 130.91,-94.94 201.22,-94.94 201.22,-122.5 -201.22,-122.5
Mechanical47:
  text "2" at 21.59,66.87 h10
  text "1" at 47.18,66.87 h10
  text "3" at -4,66.87 h10
  text "5" at -55.18,66.87 h10
  text "4" at -29.59,66.87 h10
  text "SH4" at 84.95,52.7 h10
  text "SH5" at -48.91,-37.85 h10
  text "SH6" at 24.91,-37.85 h10
  text "SH2" at 145,-43.27 h10
  text "SH1" at -165,-43.27 h10
  text "SH3" at -108.95,52.7 h10
Top Assembly:
  lines w6: -150,-122.5 -150,87.5 150,87.5 150,-122.5 -150,-122.5 ; -15,-137.5 -10,-137.5 -10,-167.5 0,-167.5 0,-137.5 5,-137.5 -5,-127.5 -15,-137.5 ; 40,102.5 60,102.5 50,92.5 40,102.5

## CON_PMC20X2_QSH-D-DP_S_S_S [mil] "CON_PMC20X2_QSH-D-DP_S_S_S"
pads (46):
  rect 11x90 smd: 1(-275.75,-112.99) 2(-275.75,112.99) 3(-256.06,-112.99) 4(-256.06,112.99) 5(-216.69,-112.99) 6(-216.69,112.99) 7(-197.01,-112.99) 8(-197.01,112.99) 9(-157.64,-112.99) 10(-157.64,112.99) 11(-137.95,-112.99) 12(-137.95,112.99) 13(-98.58,-112.99) 14(-98.58,112.99) 15(-78.9,-112.99) 16(-78.9,112.99) 17(-39.53,-112.99) 18(-39.53,112.99) 19(-19.84,-112.99) 20(-19.84,112.99) 21(19.53,-112.99) 22(19.53,112.99) 23(39.21,-112.99) 24(39.21,112.99) 25(78.58,-112.99) 26(78.58,112.99) 27(98.27,-112.99) 28(98.27,112.99) 29(137.64,-112.99) 30(137.64,112.99) 31(157.32,-112.99) 32(157.32,112.99) 33(196.69,-112.99) 34(196.69,112.99) 35(216.38,-112.99) 36(216.38,112.99) 37(255.75,-112.99) 38(255.75,112.99) 39(275.43,-112.99) 40(275.43,112.99)
  rect 100x17 smd: 41(-327.52,0) 44(307.52,0)
  rect 185x17 smd: 42(115,0) 43(-135,0)
  round 35 hole 40 unplated: ""(-386.38,105.12) ""(406.26,105.12)
Top Overlay:
  lines w6: -440,-175 440,-175 440,175 -440,175 -440,-175 ; -290.02,-199.94 -260.02,-199.94 -275.02,-184.94 -290.02,-199.94
  text "40" at 238.98,185.06 h25
  text "2" at -287.52,185.06 h25
  text "39" at 263.98,-209.94 h25
  text ".Designator" at -224.02,247.56 h30
Top Courtyard:
  dashed: -437,-164.99 -437,164.99 433.26,164.99 433.26,-164.99
Top 3D Body:
  region: -440,-175 420,-175 440,-175 440,175 420,175 -440,175
Mechanical 10:
  lines w6: -285,-145 410,-145 410,145 -430,145 -430,-145 -285,-145 ; -285,-145 -265,-145 -275,-135 -285,-145 ; -400,-115 -400,75 -360,115 340,115 380,75 380,-115 -400,-115 ; -315,-75 -315,75 305,75 305,-75 -315,-75
  text "J22" at -48.02,-13.44 h30
Mechanical 11:
  lines w6: -285,-145 410,-145 410,145 -430,145 -430,-145 -285,-145 ; -285,-145 -265,-145 -275,-135 -285,-145 ; -400,-115 -400,75 -360,115 340,115 380,75 380,-115 -400,-115 ; -315,-75 -315,75 305,75 305,-75 -315,-75
  text "J22" at -48.02,-13.44 h30
Mechanical 12:
  lines w6: -285,-145 410,-145 410,145 -430,145 -430,-145 -285,-145 ; -285,-145 -265,-145 -275,-135 -285,-145 ; -400,-115 -400,75 -360,115 340,115 380,75 380,-115 -400,-115 ; -315,-75 -315,75 305,75 305,-75 -315,-75
  text "J22" at -48.02,-13.44 h30
Mechanical 13:
  lines w6: -285,-145 410,-145 410,145 -430,145 -430,-145 -285,-145 ; -285,-145 -265,-145 -275,-135 -285,-145 ; -400,-115 -400,75 -360,115 340,115 380,75 380,-115 -400,-115 ; -315,-75 -315,75 305,75 305,-75 -315,-75
  text "J22" at -48.02,-13.44 h30
Mechanical 14:
  lines w6: -285,-145 410,-145 410,145 -430,145 -430,-145 -285,-145 ; -285,-145 -265,-145 -275,-135 -285,-145 ; -400,-115 -400,75 -360,115 340,115 380,75 380,-115 -400,-115 ; -315,-75 -315,75 305,75 305,-75 -315,-75
  text "J22" at -48.02,-13.44 h30
Multi-Layer keep-out:
  region: 446.09,105.12 444.72,115.56 440.69,125.29 434.28,133.65 425.92,140.06 416.19,144.09 405.75,145.46 395.31,144.09 385.57,140.06 377.22,133.65 370.81,125.29 366.78,115.56 365.4,105.12 366.78,94.68 370.81,84.95 377.22,76.59 385.57,70.18 395.31,66.15 405.75,64.77 416.19,66.15 425.92,70.18 434.28,76.59 440.69,84.95 444.72,94.68
  region: -346.03,105.12 -347.41,115.56 -351.44,125.29 -357.85,133.65 -366.2,140.06 -375.94,144.09 -386.38,145.46 -396.82,144.09 -406.55,140.06 -414.91,133.65 -421.32,125.29 -425.35,115.56 -426.72,105.12 -425.35,94.68 -421.32,84.95 -414.91,76.59 -406.55,70.18 -396.82,66.15 -386.38,64.77 -375.94,66.15 -366.2,70.18 -357.85,76.59 -351.44,84.95 -347.41,94.68
Mechanical47:
  text "1" at -279.75,-112.99 h10
  text "25" at 70.58,-112.99 h10
  text "26" at 70.58,112.99 h10
  text "27" at 90.27,-112.99 h10
  text "28" at 90.27,112.99 h10
  text "29" at 129.64,-112.99 h10
  text "3" at -260.06,-112.99 h10
  text "31" at 149.32,-112.99 h10
  text "33" at 188.69,-112.99 h10
  text "35" at 208.38,-112.99 h10
  text "37" at 247.75,-112.99 h10
  text "39" at 267.43,-112.99 h10
  text "6" at -220.69,112.99 h10
  text "8" at -201.01,112.99 h10
  text "4" at -260.06,112.99 h10
  text "13" at -106.58,-112.99 h10
  text "19" at -27.84,-112.99 h10
  text "17" at -47.53,-112.99 h10
  text "23" at 31.21,-112.99 h10
  text "9" at -161.64,-112.99 h10
  text "15" at -86.9,-112.99 h10
  text "21" at 11.53,-112.99 h10
  text "5" at -220.69,-112.99 h10
  text "14" at -106.58,112.99 h10
  text "10" at -165.64,112.99 h10
  text "7" at -201.01,-112.99 h10
  text "40" at 267.43,112.99 h10
  text "38" at 247.75,112.99 h10
  text "11" at -145.95,-112.99 h10
  text "24" at 31.21,112.99 h10
  text "16" at -86.9,112.99 h10
  text "12" at -145.95,112.99 h10
  text "41" at -335.52,0 h10
  text "44" at 299.52,0 h10
  text "43" at -143,0 h10
  text "42" at 107,0 h10
  text "18" at -47.53,112.99 h10
  text "20" at -27.84,112.99 h10
  text "22" at 11.53,112.99 h10
  text "2" at -279.75,112.99 h10
  text "30" at 129.64,112.99 h10
  text "34" at 188.69,112.99 h10
  text "32" at 149.32,112.99 h10
  text "36" at 208.38,112.99 h10
Top Assembly:
  lines w6: -285,-145 410,-145 410,145 -430,145 -430,-145 -285,-145 ; -285,-145 -265,-145 -275,-135 -285,-145 ; -400,-115 -400,75 -360,115 340,115 380,75 380,-115 -400,-115 ; -315,-75 -315,75 305,75 305,-75 -315,-75
3D body: height 150, standoff 0, extent -440,-175 440,175

## CON_PMC30X2_QSH-030-01-L_S_S_S [mil] "CON_PMC30X2_QSH-030-01-L_S_S_S"
pads (66):
  rect 11x90 smd: 1(-285.43,-112.99) 2(-285.43,112.99) 3(-265.75,-112.99) 4(-265.75,112.99) 5(-246.06,-112.99) 6(-246.06,112.99) 7(-226.38,-112.99) 8(-226.38,112.99) 9(-206.69,-112.99) 10(-206.69,112.99) 11(-187.01,-112.99) 12(-187.01,112.99) 13(-167.32,-112.99) 14(-167.32,112.99) 15(-147.64,-112.99) 16(-147.64,112.99) 17(-127.95,-112.99) 18(-127.95,112.99) 19(-108.27,-112.99) 20(-108.27,112.99) 21(-88.58,-112.99) 22(-88.58,112.99) 23(-68.9,-112.99) 24(-68.9,112.99) 25(-49.21,-112.99) 26(-49.21,112.99) 27(-29.53,-112.99) 28(-29.53,112.99) 29(-9.84,-112.99) 30(-9.84,112.99) 31(9.84,-112.99) 32(9.84,112.99) 33(29.53,-112.99) 34(29.53,112.99) 35(49.21,-112.99) 36(49.21,112.99) 37(68.9,-112.99) 38(68.9,112.99) 39(88.58,-112.99) 40(88.58,112.99) 41(108.27,-112.99) 42(108.27,112.99) 43(127.95,-112.99) 44(127.95,112.99) 45(147.64,-112.99) 46(147.64,112.99) 47(167.32,-112.99) 48(167.32,112.99) 49(187.01,-112.99) 50(187.01,112.99) 51(206.69,-112.99) 52(206.69,112.99) 53(226.38,-112.99) 54(226.38,112.99) 55(246.06,-112.99) 56(246.06,112.99) 57(265.75,-112.99) 58(265.75,112.99) 59(285.43,-112.99) 60(285.43,112.99)
  rect 100x17 smd: 61(317.52,0) 62(-317.52,0)
  rect 186x17 smd: 63(125,0) 64(-125,0)
  round 35 hole 40 unplated: ""(-396.06,105.12) ""(396.46,105.12)
Top Overlay:
  lines w6: -205,185 -205,210 ; -110,185 -110,210 ; -10,185 -10,210 ; 90,185 90,210 ; 185,185 185,210 ; -430,-175 430,-175 430,175 -430,175 -430,-175 ; -305,-195 -265,-195 -285,-175 -305,-195
  text ".Designator" at 68.79,260 h30
  text "2" at -277.71,205 h20
  text "59" at 385.79,-185 h20
Top Courtyard:
  dashed: -427,-164.99 -427,164.99 427,164.99 427,-164.99
Top 3D Body:
  region: -430,-175 -430,175 430,175 430,-175
Mechanical 15:
  lines w6: -420,-145 -420,145 420,145 420,-145 -265,-145 -285,-125 -305,-145 -260,-145 -420,-145
  text "J36" at 63.79,25 h30
Mechanical 16:
  lines w6: -420,-145 -420,145 420,145 420,-145 -265,-145 -285,-125 -305,-145 -260,-145 -420,-145
  text "J36" at 63.79,25 h30
Multi-Layer keep-out:
  region: 436.8,105.12 435.43,94.68 431.4,84.95 424.98,76.59 416.63,70.18 406.9,66.15 396.46,64.77 386.01,66.15 376.28,70.18 367.93,76.59 361.52,84.95 357.49,94.68 356.11,105.12 357.49,115.56 361.52,125.29 367.93,133.65 376.28,140.06 386.01,144.09 396.46,145.46 406.9,144.09 416.63,140.06 424.98,133.65 431.4,125.29 435.43,115.56
  region: -355.72,105.12 -357.09,94.68 -361.12,84.95 -367.53,76.59 -375.89,70.18 -385.62,66.15 -396.06,64.77 -406.5,66.15 -416.23,70.18 -424.59,76.59 -431,84.95 -435.03,94.68 -436.41,105.12 -435.03,115.56 -431,125.29 -424.59,133.65 -416.23,140.06 -406.5,144.09 -396.06,145.46 -385.62,144.09 -375.89,140.06 -367.53,133.65 -361.12,125.29 -357.09,115.56
Mechanical 17:
  lines w6: -420,-145 -420,145 420,145 420,-145 -265,-145 -285,-125 -305,-145 -260,-145 -420,-145
  text "J36" at 63.79,25 h30
Mechanical 18:
  lines w6: -420,-145 -420,145 420,145 420,-145 -265,-145 -285,-125 -305,-145 -260,-145 -420,-145
  text "J36" at 63.79,25 h30
Mechanical 19:
  lines w6: -420,-145 -420,145 420,145 420,-145 -265,-145 -285,-125 -305,-145 -260,-145 -420,-145
  text "J36" at 63.79,25 h30
Mechanical47:
  text "53" at 218.38,-112.99 h10
  text "50" at 179.01,112.99 h10
  text "32" at 1.84,112.99 h10
  text "10" at -214.69,112.99 h10
  text "8" at -230.38,112.99 h10
  text "6" at -250.06,112.99 h10
  text "14" at -175.32,112.99 h10
  text "26" at -57.21,112.99 h10
  text "1" at -289.43,-112.99 h10
  text "24" at -76.9,112.99 h10
  text "7" at -230.38,-112.99 h10
  text "40" at 80.58,112.99 h10
  text "52" at 198.69,112.99 h10
  text "38" at 60.9,112.99 h10
  text "54" at 218.38,112.99 h10
  text "18" at -135.95,112.99 h10
  text "28" at -37.53,112.99 h10
  text "20" at -116.27,112.99 h10
  text "4" at -269.75,112.99 h10
  text "2" at -289.43,112.99 h10
  text "35" at 41.21,-112.99 h10
  text "63" at 117,0 h10
  text "64" at -133,0 h10
  text "62" at -325.52,0 h10
  text "61" at 309.52,0 h10
  text "17" at -135.95,-112.99 h10
  text "30" at -17.84,112.99 h10
  text "36" at 41.21,112.99 h10
  text "12" at -195.01,112.99 h10
  text "22" at -96.58,112.99 h10
  text "5" at -250.06,-112.99 h10
  text "48" at 159.32,112.99 h10
  text "3" at -269.75,-112.99 h10
  text "44" at 119.95,112.99 h10
  text "46" at 139.64,112.99 h10
  text "16" at -155.64,112.99 h10
  text "34" at 21.53,112.99 h10
  text "59" at 277.43,-112.99 h10
  text "55" at 238.06,-112.99 h10
  text "57" at 257.75,-112.99 h10
  text "60" at 277.43,112.99 h10
  text "56" at 238.06,112.99 h10
  text "58" at 257.75,112.99 h10
  text "31" at 1.84,-112.99 h10
  text "27" at -37.53,-112.99 h10
  text "51" at 198.69,-112.99 h10
  text "49" at 179.01,-112.99 h10
  text "47" at 159.32,-112.99 h10
  text "45" at 139.64,-112.99 h10
  text "43" at 119.95,-112.99 h10
  text "41" at 100.27,-112.99 h10
  text "39" at 80.58,-112.99 h10
  text "37" at 60.9,-112.99 h10
  text "33" at 21.53,-112.99 h10
  text "29" at -17.84,-112.99 h10
  text "25" at -57.21,-112.99 h10
  text "23" at -76.9,-112.99 h10
  text "21" at -96.58,-112.99 h10
  text "19" at -116.27,-112.99 h10
  text "42" at 100.27,112.99 h10
  text "11" at -195.01,-112.99 h10
  text "13" at -175.32,-112.99 h10
  text "9" at -210.69,-112.99 h10
  text "15" at -155.64,-112.99 h10
Top Assembly:
  lines w6: -420,-145 -260,-145 -305,-145 -285,-125 -265,-145 420,-145 420,145 -420,145 -420,-145
3D body: height 150, standoff 0, extent -430,-175 430,175